# EAGLE library part VW1101M (library inklinometer)
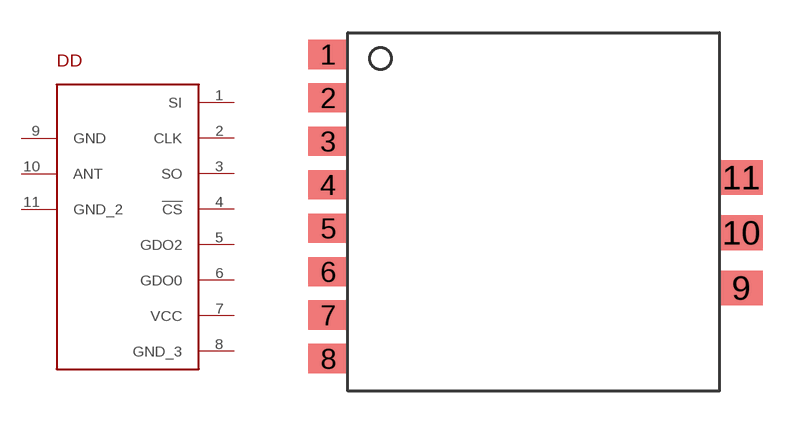
[diagram p3: symbol with the pads of VW1101M; footprint VW1101M]

Designator prefix DD

## VW1101M  [VW1101M]
1  SI
2  CLK
3  SO
4  !CS
5  GDO2
6  GDO0
7  VCC  pwr
8  GND_3  pwr
9  GND  pwr
10  ANT
11  GND_2  pwr

## Footprint VW1101M (pad centres in mm)
smd 1.85 x 1.35: 1 0,15.5; 2 0,13.5; 3 0,11.5; 4 0,9.5; 5 0,7.5; 6 0,5.5; 7 0,3.5; 8 0,1.5
smd 2 x 1.6: 9 19,4.75; 10 19,7.29; 11 19,9.83